# Altium schematic symbol library SCH - POWER - SWITCHMODE - TI TPS610982DSE.SchLib: 1 symbol
Pins are listed as number, name and electrical type; pins without a type are passive.

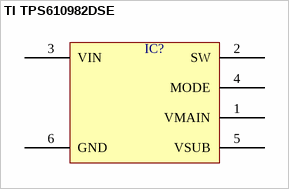
[diagram p0: symbol TI TPS610982DSE]

## TI TPS610982DSE
designator IC?  (value not drawn)
pins: 1 VMAIN, 2 SW, 3 VIN, 4 MODE, 5 VSUB, 6 GND